# EAGLE library part LM293 (library HyTechDevices)
Texas Instruments LM293 Dual Differential Comparator
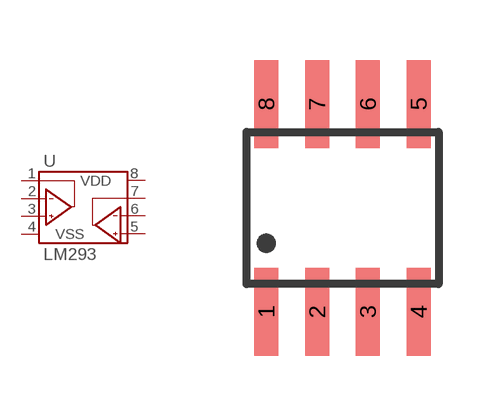
[diagram p47: symbol with the pads of SOIC-08; footprint SOIC-08]

Designator prefix -

## LM293DG4  [SOIC-08]
1  VOUTA  pas
2  VINA-  pas
3  VINA+  pas
4  VSS  pas
5  VINB+  pas
6  VINB-  pas
7  VOUTB  pas
8  VDD  pas

## Footprint SOIC-08 (pad centres in mm)
SMALL OUTLINE INTEGRATED CIRCUIT
smd 0.6 x 2.2: 1 -1.905,-2.6; 2 -0.635,-2.6; 3 0.635,-2.6; 4 1.905,-2.6; 5 1.905,2.6; 6 0.635,2.6; 7 -0.635,2.6; 8 -1.905,2.6